# Altium schematic symbol library ecoVENTPS.SchLib: 9 symbols
Pins are listed as number, name and electrical type; pins without a type are passive.

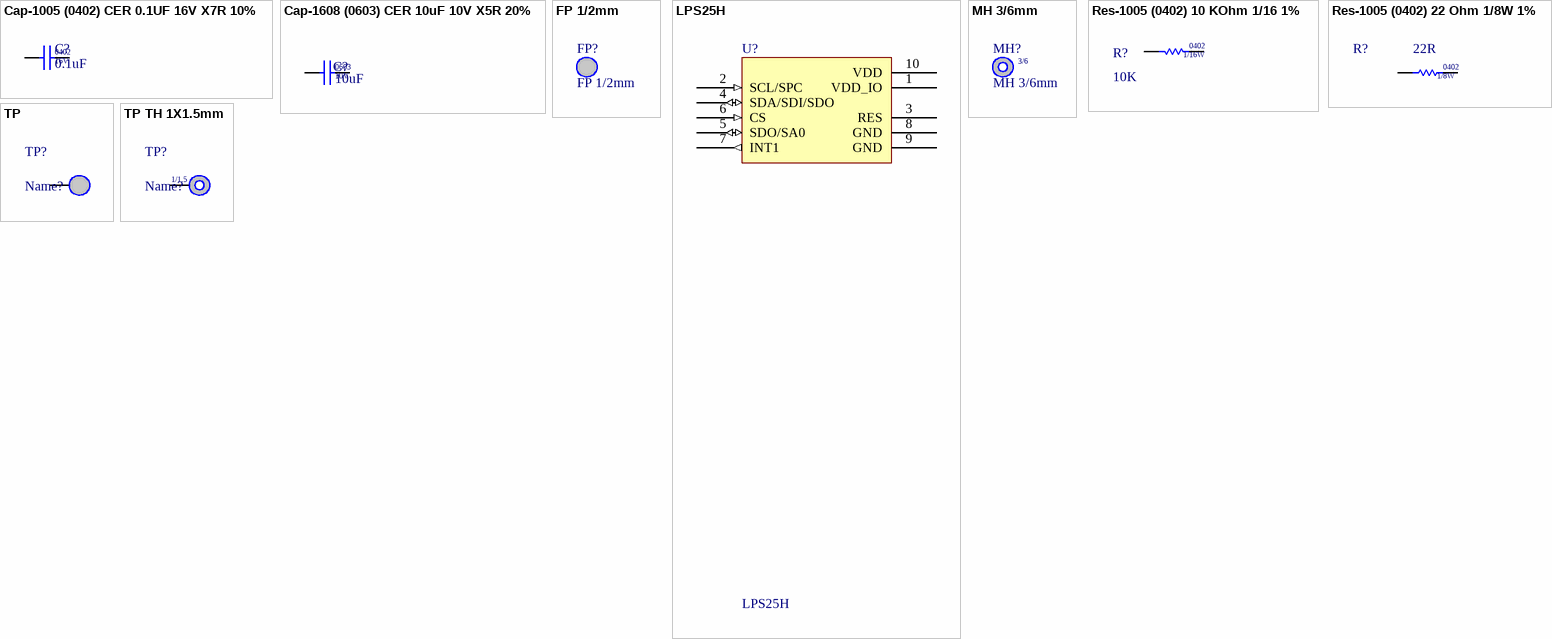
[diagram p0: symbols Cap-1005 (0402) CER 0.1UF 16V X7R 10% to TP TH 1X1.5mm]

## Cap-1005 (0402) CER 0.1UF 16V X7R 10%
designator C?, comment 0.1uF
CAP CER 0.1UF 0402 (1005) 16V X7R 10%; Manufacturer: Murata Electronics North America; D P/N: 490-3261-1-ND; D Price: 0.1; M P/N: GRM155R71C104KA88D; S MOQ: 10000; S P/N: 490-3261-2-ND; S Price: 0.00462; Distributor: Digikey; Mounting: SMD; Supplier: Digi Key; Package: 0402; Value: 0.1uF
simulation model CAP (Capacitor)
signal-integrity model Cap
footprint CAPC1005X60N
pins: 1, 2
text: 16V

## Cap-1608 (0603) CER 10uF 10V X5R 20%
designator C?, comment 10uF
Capacitor Ceramic 10uF 1608 (0603) 10V X5R 20%; Manufacturer: Taiyo Yuden; D P/N: 587-3412-1-ND; D Price: 0.4; M P/N: LMK107BBJ106MAHT; S MOQ: 4000; S P/N: 587-3412-2-ND; S Price: 0.08296; Distributor: Digikey; Mounting: SM; Supplier: Digi Key; Package: 0603; Value: 10uF
simulation model CAP (Capacitor)
signal-integrity model Cap
footprint CAPC1608L
footprint CAPC1608X95B
pins: 1, 2
text: 10V

## FP 1/2mm
designator FP?  (no BOM)
Fiducial point; D Price: 0; D P/N: FIDUCIALP; M P/N: FIDUCIALP; Mounting: SM
footprint FIDUCIAL_POINT_1MM

## LPS25H
designator U?
MEMS Pressure Sensor; Manufacturer: ST Microelectronics; M P/N: LPS25HTR; D P/N: 497-14380-1-ND; D Price: 4.14; S MOQ: 1000; S Price: 2.07; Mounting: SMD; Distributor: Digikey; Supplier: Digi Key; S P/N: 497-14380-1-ND; Value: Pressure
footprint STM_HCLGA10L (Footprint not found)
pins: 1 VDD_IO (power), 2 SCL/SPC (in), 3 RES, 4 SDA/SDI/SDO (io), 5 SDO/SA0 (io), 6 CS (in), 7 INT1 (out), 8 GND (power), 9 GND (power), 10 VDD (power)

## MH 3/6mm
designator MH?  (no BOM)
Mounting Hole Not-plated; D P/N: MHOLE; D Price: 0; M P/N: MHOLE; Mounting: SM
footprint MHOLE_TH_3-6MM
text: 3/6

## Res-1005 (0402) 10 KOhm 1/16 1%
designator R?, comment 10K
RES 10 KOhm 1/16W 1% 0402 SMD; Manufacturer: Yageo; D P/N: 311-10.0KLRCT-ND; D Price: 0.10; M P/N: RC0402FR-0710KL; S P/N: 311-10.0KLRTR-ND; S MOQ: 10000; S Price: 0.00152; Distributor: Digikey; Mounting: SM; Supplier: Digi Key; Value: 10K
simulation model RESISTOR (Resistor)
signal-integrity model Res
footprint RESC1005X40AN
pins: 1, 2
text: 0402; 1/16W

## Res-1005 (0402) 22 Ohm 1/8W 1%
designator R?, comment 22R
Res-1005 (0402) 22 Ohm 1/8W 1%; Manufacturer: Vishay Dale; D P/N: 541-22.0YCT-ND; D Price: 0.020; M P/N: CRCW040222R0FKEDHP; S MOQ: 10000; S P/N: 541-22.0YTR-ND; S Price: 0.02376; Distributor: Digikey; Mounting: SM; Supplier: Digi Key; Value: 22R
simulation model RESISTOR (Resistor)
signal-integrity model Res
footprint RESC1005X40AN
pins: 1, 2
text: 0402; 1/8W

## TP
designator TP?, comment Name?  (no BOM)
Test point; D P/N: TESTP; D Price: 0; M P/N: TESTP; Mounting: SM
signal-integrity model Connector
footprint TEST_POINT_1MM
pins: 1

## TP TH 1X1.5mm
designator TP?, comment Name?  (no BOM)
Test point Through Hole; D P/N: TESTP; D Price: 0; M P/N: TESTP; Mounting: SM
signal-integrity model Connector
footprint TEST_POINT_TH_1.5MM
pins: 1
text: 1/1.5